# Altium footprint library 2220.PcbLib: 1 footprints
Each footprint in its own frame and in the unit in brackets; x right, y up, seen from the top. Pads: shape width x height; smd on the part's side, far side on the other; paste and mask are expansions set on the pad; w line width, h text height; cw(c..) or ccw(c..) is an arc to the next point about the centre after c.
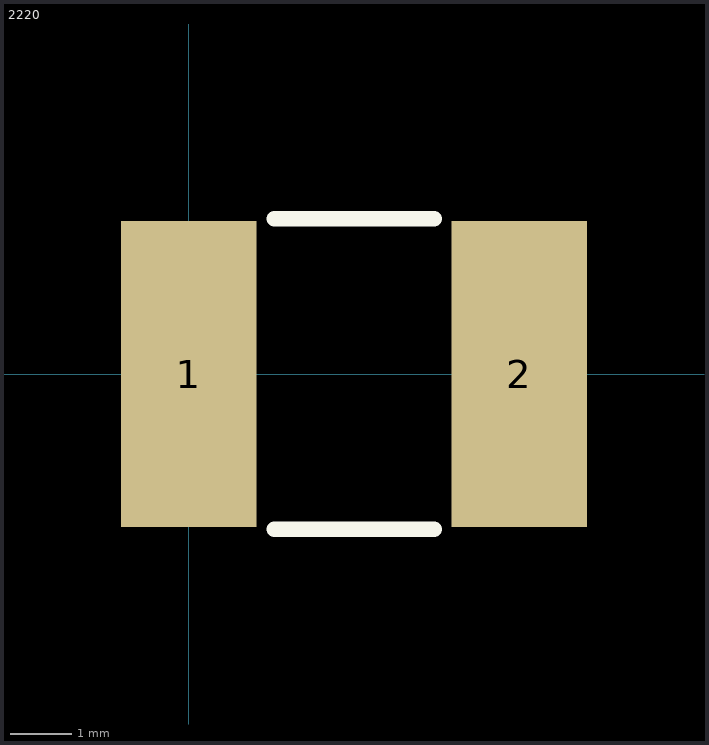
[diagram p0: the footprint, top view; thin cyan lines are the x and y axes]

## 2220 [mm]
pads (2):
  rect 2.212x5 smd: 1(0,0) 2(5.4,0)
Top Overlay:
  lines w0.254: 1.397,-2.54 4.013,-2.54 ; 1.397,2.54 4.013,2.54